# Altium footprint library WL-VCSL.PcbLib: 1 footprints
Each footprint in its own frame and in the unit in brackets; x right, y up, seen from the top. Pads: shape width x height; smd on the part's side, far side on the other; paste and mask are expansions set on the pad; w line width, h text height; cw(c..) or ccw(c..) is an arc to the next point about the centre after c.
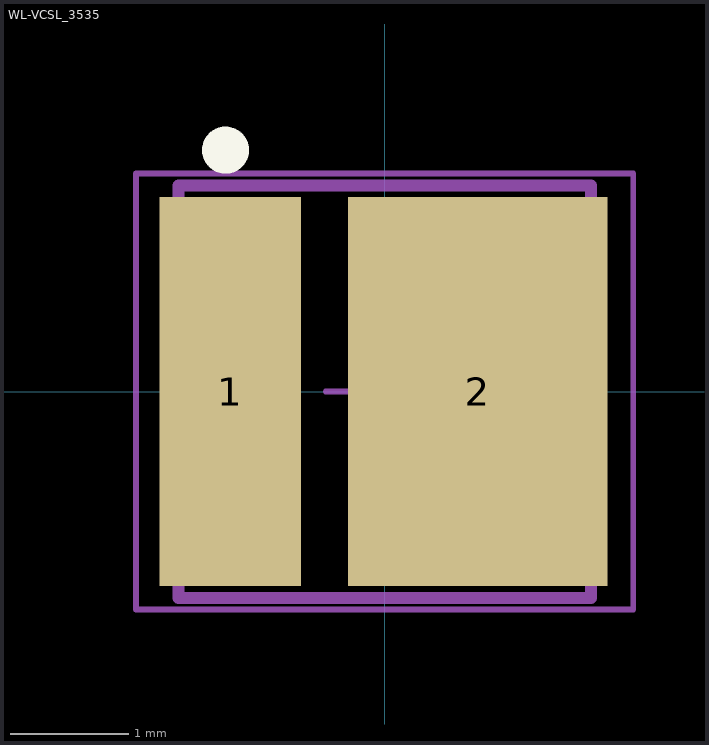
[diagram p0: the footprint, top view; thin cyan lines are the x and y axes]

## WL-VCSL_3535 [mm] "Vertical Cavity surface emitting Laser, size 3535, body 3.5x3.5mm"
height 1.77
pads (2):
  rect 1.2x3.3 smd: 1(-1.31,0)
  rect 2.2x3.3 smd: 2(0.79,0)
Top Overlay:
  circle w0.2: c-1.35,2.05 r0.1
Top Designator:
  text ".Designator" at -5.998,-0.4 h1.2
Top Component Outline:
  circle w0.1: c-1.25,1.25 r0.2
  lines w0.1: -1.75,-1.75 -1.75,1.75 1.75,1.75 1.75,-1.75 -1.75,-1.75
Top Courtyard:
  lines w0.05: -0.5,0 0.5,0 ; 0,-0.5 0,0.5 ; -2.11,-1.85 2.11,-1.85 2.11,1.85 -2.11,1.85 -2.11,-1.85
3D body "WL-VCSL_3535.stp": height 1.77, standoff 0, extent -1.75,-1.75 1.75,1.75